# EAGLE library part UCC12040DVE (library DC-DC Converter)
DC DC CONV ISO 5V OR 3.3V 0.5W Manufacturer's datasheet <http://www.ti.com/lit/ds/symlink/ucc12040.pdf?HQS=TI-null-null-digikeymode-df-pf-null-wwe&ts=1591260673019>
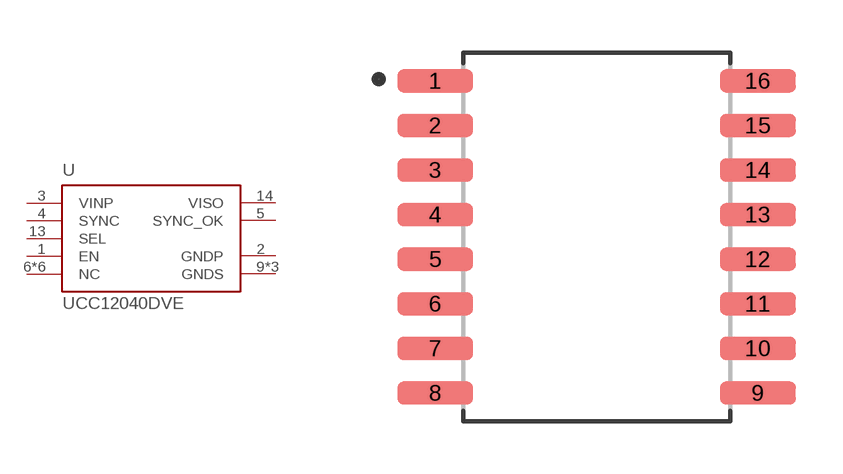
[diagram p3: symbol with the pads of SOIC_16; footprint SOIC_16]

Designator prefix U

## UCC12040DVE (CREATED_BY: PCBLayout.com; DIGIKEY_PARTNO: 296-UCC12040DVE-ND; MANUFACTURER: Texas Instruments; MPN: UCC12040DVE)  [SOIC_16]
1  EN  pas
2  GNDP  pwr
3  VINP  pwr
4  SYNC  in
5  SYNC_OK  out
6  NC  pas
7  NC  pas
8  NC  pas
9  GNDS  pwr
10  NC  pas
11  NC  pas
12  NC  pas
13  SEL  in
14  VISO  pwr
15  GNDS  pwr
16  GNDS  pwr

## Footprint SOIC_16 (pad centres in mm)
Small Outline IC (SOIC), 1.27 mm pitch; 16 pin, 10.30 mm L X 7.50 mm W X 2.65 mm H body PCB Libraries Packages
smd 2.16 x 0.66: 1 -4.59,4.445; 2 -4.59,3.175; 3 -4.59,1.905; 4 -4.59,0.635; 5 -4.59,-0.635; 6 -4.59,-1.905; 7 -4.59,-3.175; 8 -4.59,-4.445; 9 4.59,-4.445; 10 4.59,-3.175; 11 4.59,-1.905; 12 4.59,-0.635; 13 4.59,0.635; 14 4.59,1.905; 15 4.59,3.175; 16 4.59,4.445